# Altium schematic symbol library SchLib_Main.SchLib: 425 symbols (part 2 of 11)
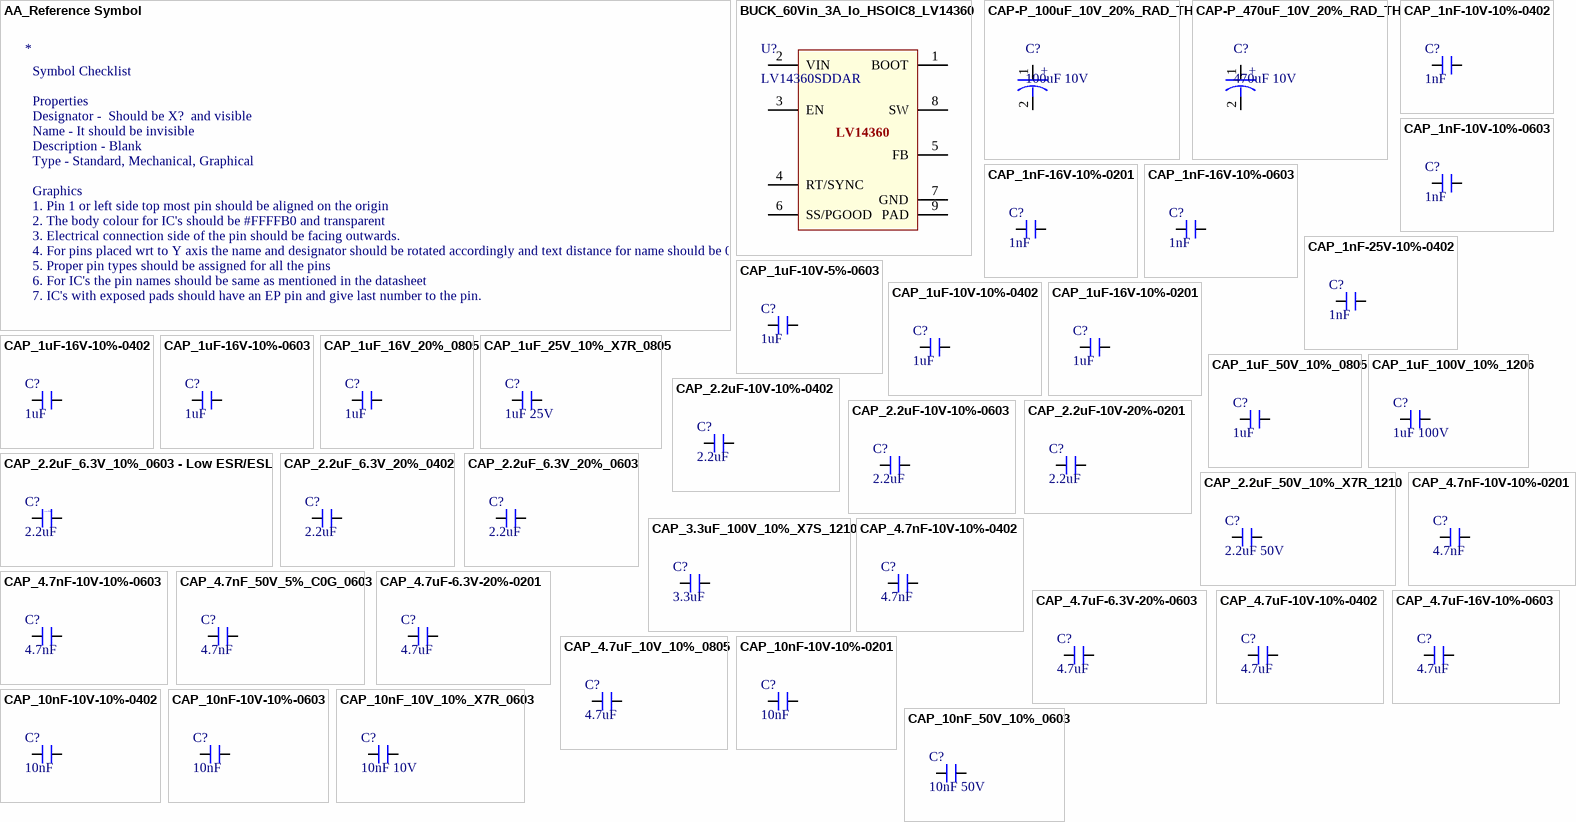
[diagram p17: symbols AA_Reference Symbol to CAP_10nF_50V_10%_0603]

## CAP_2.2uF_50V_10%_X7R_1210
designator C?, comment 2.2uF 50V
Ceramic Capacitor, Multilayer, Ceramic, 50V, 10% +Tol, 10% -Tol, X7R, 15% TC, 2.2uF, Surface Mount, 1210; Manufacturer: KEMET; Manufacturer Part Number: C1210C225K5RACTU; Multilayer: Yes; Supplier: Digi-Key; Supplier Part Number: 399-C1210C225K5RAC7800CT-ND; RoHS: Yes; Category: Ceramic Capacitors; Stock: 58852; Pricing: 1=0.56, 10=0.373, 50=0.2972, 100=0.2454, 500=0.1917, 1000=0.16294 (USD); Mounting Technology: Surface Mount; Pins: 2; Terminal Finish: Nickel; Dielectric Material: Ceramic; Package Shape: Rectangular; Case/Package: 1210; Min Operating Temperature: -55°C; Max Operating Temperature: 125°C; JESD-609 Code: e3; Value: 2.2uF; Capacitor Type: Ceramic; Tolerance  (fill in as +-): 10%; Package Style: SMTMeter; Packaging: Tape and Reel; Tolerance (fill in as +-): 10%; Rated DC Voltage (URdc): 50V; Temperature Characteristics Code: X7R; Termination: Wraparound; Length: 3.2mm; Width: 2.5mm; Height: 1.25mm; Reach SVHC Compliant: Yes; RoHS Compliant: Yes; ComponentLink1URL: https://datasheet.ciiva.com:443/pdfs/VipMasterIC/IC/KEME/KEME-S-A0008991654/KEME-S-A0008991654-1.pdf?src-supplier=IHS+Markit; ComponentLink1Description: https://datasheet.ciiva.com:443/pdfs/VipMasterIC/IC/KEME/KEME-S-A0008991654/KEME-S-A0008991654-1.pdf?src-supplier=IHS+Markit; ComponentLink2URL: https://datasheet.ciiva.com/7807/1693454-7807221.pdf?src-supplier=Element14; ComponentLink2Description: https://datasheet.ciiva.com/7807/1693454-7807221.pdf?src-supplier=Element14; ComponentLink3URL: https://datasheet.ciiva.com/7807/1693454-7807222.pdf?src-supplier=Element14; ComponentLink3Description: https://datasheet.ciiva.com/7807/1693454-7807222.pdf?src-supplier=Element14
footprint CAP_1210
pins: 1, 2

## CAP_3.3uF_100V_10%_X7S_1210
designator C?, comment 3.3uF
Ceramic Capacitor, Multilayer, Ceramic, 100V, 10% +Tol, 10% -Tol, X7S, 22% TC, 3.3uF, Surface Mount, 1210; Manufacturer: TDK; Manufacturer Part Number: C3225X7S2A335K200AB; Multilayer: Yes; Supplier: Mouser; Supplier Part Number: 810-C3225X7S2A335K; RoHS: Yes; Category: Ceramic Capacitors; Stock: 85774; Pricing: 1=0.61, 10=0.394, 50=0.394, 100=0.348, 1000=0.27, 10000=0.228 (USD); Mounting Technology: Surface Mount; Pins: 2; Dielectric Material: Ceramic; Package Shape: Rectangular; Case/Package: 1210; Terminal Finish: Nickel; Min Operating Temperature: -55°C; Max Operating Temperature: 125°C; JESD-609 Code: e3; Value: 3.3uF; Capacitor Type: Ceramic; Tolerance  (fill in as +-): 10%; Package Style: SMTMeter; Packaging: Tape and Reel; Tolerance (fill in as +-): 10%; Rated DC Voltage (URdc): 100V; Temperature Characteristics Code: X7S; Termination: Wraparound; Length: 3.2mm; Width: 2.5mm; Height: 2mm; Reach SVHC Compliant: Yes; RoHS Compliant: Yes; ComponentLink1URL: https://datasheet.ciiva.com:443/pdfs/VipMasterIC/IC/TDKC/TDKC-S-A0008591847/TDKC-S-A0008591847-1.pdf?src-supplier=IHS+Markit; ComponentLink1Description: https://datasheet.ciiva.com:443/pdfs/VipMasterIC/IC/TDKC/TDKC-S-A0008591847/TDKC-S-A0008591847-1.pdf?src-supplier=IHS+Markit; ComponentLink2URL: http://components.arrow.com/part/dataview/57434406S459360N1165?src-supplier=Arrow+Electronics; ComponentLink2Description: http://components.arrow.com/part/dataview/57434406S459360N1165?src-supplier=Arrow+Electronics; ComponentLink3URL: https://product.tdk.com/info/en/documents/chara_sheet/C3225X7S2A335K200AB.pdf?src-supplier=Digikey; ComponentLink3Description: https://product.tdk.com/info/en/documents/chara_sheet/C3225X7S2A335K200AB.pdf?src-supplier=Digikey; ComponentLink4URL: https://product.tdk.com/info/en/catalog/datasheets/mlcc_commercial_midvoltage_en.pdf?ref_disty=digikey&src-supplier=Digikey; ComponentLink4Description: https://product.tdk.com/info/en/catalog/datasheets/mlcc_commercial_midvoltage_en.pdf?ref_disty=digikey&src-supplier=Digikey; ComponentLink5URL: https://4donline.ihs.com/images/VipMasterIC/IC/TDKC/TDKC-S-A0000596732/TDKC-S-A0000596732-1.pdf?hkey=52A5661711E402568146F3353EA87419&src-supplier=Farnell; ComponentLink5Description: https://4donline.ihs.com/images/VipMasterIC/IC/TDKC/TDKC-S-A0000596732/TDKC-S-A0000596732-1.pdf?hkey=52A5661711E402568146F3353EA87419&src-supplier=Farnell; ComponentLink6URL: https://4donline.ihs.com/images/VipMasterIC/IC/TDKC/TDKC-S-A0000596732/TDKC-S-A0000596732-1.pdf?hkey=52A5661711E402568146F3353EA87419&src-supplier=Newark; ComponentLink6Description: https://4donline.ihs.com/images/VipMasterIC/IC/TDKC/TDKC-S-A0000596732/TDKC-S-A0000596732-1.pdf?hkey=52A5661711E402568146F3353EA87419&src-supplier=Newark; ComponentLink7URL: https://datasheet.octopart.com/C3225X7S2A335K200AB-TDK-datasheet-10497308.pdf?src-supplier=Future+Electronics; ComponentLink7Description: https://datasheet.octopart.com/C3225X7S2A335K200AB-TDK-datasheet-10497308.pdf?src-supplier=Future+Electronics; ComponentLink8URL: https://datasheet.octopart.com/C3225X7S2A335K200AB-TDK-datasheet-43914167.pdf?src-supplier=Newark; ComponentLink8Description: https://datasheet.octopart.com/C3225X7S2A335K200AB-TDK-datasheet-43914167.pdf?src-supplier=Newark; ComponentLink9URL: http://www.farnell.com/datasheets/2860696.pdf?src-supplier=Newark; ComponentLink9Description: http://www.farnell.com/datasheets/2860696.pdf?src-supplier=Newark; ComponentLink10URL: http://www.farnell.com/datasheets/1936671.pdf?src-supplier=Element14; ComponentLink10Description: http://www.farnell.com/datasheets/1936671.pdf?src-supplier=Element14; ComponentLink11URL: http://www.farnell.com/datasheets/1913358.pdf?src-supplier=Element14; ComponentLink11Description: http://www.farnell.com/datasheets/1913358.pdf?src-supplier=Element14
footprint CAP_1210
pins: 1, 2

## CAP_4.7nF-10V-10%-0201
designator C?, comment 4.7nF
Capacitor SMD Ceramic 0201 Case 10Vdc X7R Dielectric 4700pF ±10% ø7T/R"; Manufacturer: AVX Corporation; Manufacturer Part Number: 0201ZC472KAT2A; Manufacturer 1: Kyocera AVX; Case/Package: 0201; Supplier-1: Digikey; Supplier 1: Mouser; Manufacturer Part Number 1: 0201ZC472KAT2A; RoHS: Yes; Category: Ceramic Capacitors; Stock 1: 68403; Pricing 1: 1=0.1, 10=0.032, 50=0.032, 100=0.015, 1000=0.01, 10000=0.01 (USD); ComponentLink1URL: https://datasheet.ciiva.com/11788/0900766b80dc2409-11788513.pdf?src-supplier=Rs; ComponentLink1Description: https://datasheet.ciiva.com/11788/0900766b80dc2409-11788513.pdf?src-supplier=Rs; ComponentLink2URL: https://datasheet.ciiva.com/5433/cx7r-218113-5433338.pdf?src-supplier=Mouser; ComponentLink2Description: https://datasheet.ciiva.com/5433/cx7r-218113-5433338.pdf?src-supplier=Mouser; ComponentLink3URL: https://datasheet.ciiva.com/7693/1679506-7693437.pdf?src-supplier=Element14; ComponentLink3Description: https://datasheet.ciiva.com/7693/1679506-7693437.pdf?src-supplier=Element14; ComponentLink4URL: https://datasheet.ciiva.com/1123/84526-1123251.pdf?src-supplier=Element14; ComponentLink4Description: https://datasheet.ciiva.com/1123/84526-1123251.pdf?src-supplier=Element14; ComponentLink5URL: https://datasheet.ciiva.com/1123/84526-1123252.pdf?src-supplier=Element14; ComponentLink5Description: https://datasheet.ciiva.com/1123/84526-1123252.pdf?src-supplier=Element14; Supplier Part Number 1: 581-0201ZC472KAT2A
footprint CAP_0201
pins: 1, 2

## CAP_4.7nF-10V-10%-0402
designator C?, comment 4.7nF
Super Low Distortion Multilayer Ceramic Capacitors, 10V, 4700 pF, ± 10 %, 0402, RoHS; Manufacturer: Taiyo Yuden; Manufacturer Part Number: LMK105SD472KV-F; Case/Package: 0402; Supplier-1: Digikey; Supplier 1: Digi-Key; Manufacturer 1: Taiyo Yuden; Manufacturer Part Number 1: LMK105SD472KV-F; RoHS: Yes; Category: Ceramic Capacitors; Stock 1: 18613; Pricing 1: 1=0.3, 10=0.207, 50=0.145, 100=0.1242, 500=0.09318, 1000=0.07868, 2500=0.07454, 5000=0.0704 (USD); ComponentLink1URL: https://datasheet.ciiva.com/25612/0900766b8109988b-25612786.pdf?src-supplier=Rs; ComponentLink1Description: https://datasheet.ciiva.com/25612/0900766b8109988b-25612786.pdf?src-supplier=Rs; ComponentLink2URL: https://datasheet.ciiva.com/31394/1760254-31394326.pdf?src-supplier=Farnell; ComponentLink2Description: https://datasheet.ciiva.com/31394/1760254-31394326.pdf?src-supplier=Farnell; ComponentLink3URL: https://datasheet.ciiva.com/138/lmk105sd472kv-f-ss-138081.pdf?src-supplier=Digi-Key; ComponentLink3Description: https://datasheet.ciiva.com/138/lmk105sd472kv-f-ss-138081.pdf?src-supplier=Digi-Key; ComponentLink4URL: https://datasheet.ciiva.com/138/mlcc07-e-138082.pdf?src-supplier=Digi-Key; ComponentLink4Description: https://datasheet.ciiva.com/138/mlcc07-e-138082.pdf?src-supplier=Digi-Key; ComponentLink5URL: https://datasheet.ciiva.com/138/mlcc07-e-138083.pdf?src-supplier=Digi-Key; ComponentLink5Description: https://datasheet.ciiva.com/138/mlcc07-e-138083.pdf?src-supplier=Digi-Key; Supplier Part Number 1: 587-1068-1-ND
footprint CAP_0402 (Capacitor)
pins: 1, 2

## CAP_4.7nF-10V-10%-0603
designator C?, comment 4.7nF
Multilayer Ceramic Capacitor, 4700 pF, 10 V, ± 10%, X7R, 0603 [1608 Metric]; Manufacturer: KEMET; Manufacturer Part Number: C0603C472K8RACTU; Voltage Rating: 10V; Case/Package: 0603; Supplier-1: Digikey; Supplier 1: Digi-Key; Manufacturer 1: KEMET; Manufacturer Part Number 1: C0603C472K8RACTU; RoHS: Yes; Category: Ceramic Capacitors; Stock 1: 19320; Pricing 1: 1=0.1, 10=0.051, 50=0.0276, 100=0.0226, 500=0.01612, 1000=0.01267 (USD); Mount: Surface Mount; Case Code (Metric): 1608; Case Code (Imperial): 0603; Contact Plating: Tin,Matte; Dielectric Material: Ceramic; Min Operating Temperature: -55°C; Max Operating Temperature: 125°C; Capacitance: 4.7nF; Tolerance: 10%; Packaging: Tape and Reel; Package Quantity: 1; Voltage Rating (DC): 10V; Dielectric: X7R; Termination: SMD/SMT; Series: C; Construction: Flat; Length: 1.6mm; Width: 0.031inch; Thickness: 0.034inch; Depth: 0.8mm; Radiation Hardening: No; Reach SVHC Compliant: No; RoHS Compliant: Yes; ComponentLink1URL: http://components.arrow.com/part/dataview/3445604S8609586N7429?src-supplier=Arrow+Electronics; ComponentLink1Description: http://components.arrow.com/part/dataview/3445604S8609586N7429?src-supplier=Arrow+Electronics; ComponentLink2URL: http://www.farnell.com/datasheets/2746290.pdf?src-supplier=Farnell; ComponentLink2Description: http://www.farnell.com/datasheets/2746290.pdf?src-supplier=Farnell; ComponentLink3URL: https://api.kemet.com/component-edge/download/datasheet/C0603C472K8RACTU.pdf?src-supplier=Digi-Key; ComponentLink3Description: https://api.kemet.com/component-edge/download/datasheet/C0603C472K8RACTU.pdf?src-supplier=Digi-Key; ComponentLink4URL: http://datasheet.octopart.com/C0603C472K8RACTU-KEMET-datasheet-157246124.pdf?src-supplier=Mouser; ComponentLink4Description: http://datasheet.octopart.com/C0603C472K8RACTU-KEMET-datasheet-157246124.pdf?src-supplier=Mouser; ComponentLink5URL: http://datasheet.octopart.com/C0603C472K8RACTU-KEMET-datasheet-157246124.pdf?src-supplier=Digi-Key; ComponentLink5Description: http://datasheet.octopart.com/C0603C472K8RACTU-KEMET-datasheet-157246124.pdf?src-supplier=Digi-Key; ComponentLink6URL: http://www.farnell.com/datasheets/2746290.pdf?src-supplier=Newark; ComponentLink6Description: http://www.farnell.com/datasheets/2746290.pdf?src-supplier=Newark; ComponentLink7URL: https://datasheet.octopart.com/C0603C472K8RACTU-Kemet-datasheet-62307647.pdf?src-supplier=Element14; ComponentLink7Description: https://datasheet.octopart.com/C0603C472K8RACTU-Kemet-datasheet-62307647.pdf?src-supplier=Element14; ComponentLink8URL: http://capacitoredge.kemet.com/capedge2/DataSheet?pn=C0603C472K8RAC7867&src-supplier=Avnet; ComponentLink8Description: http://capacitoredge.kemet.com/capedge2/DataSheet?pn=C0603C472K8RAC7867&src-supplier=Avnet; ComponentLink9URL: http://datasheet.octopart.com/C0603C472K8RACTU-KEMET-datasheet-157246124.pdf?src-supplier=Verical; ComponentLink9Description: http://datasheet.octopart.com/C0603C472K8RACTU-KEMET-datasheet-157246124.pdf?src-supplier=Verical; ComponentLink10URL: http://datasheet.octopart.com/C0603C472K8RACTU-KEMET-datasheet-157246124.pdf?src-supplier=Onlinecomponents.com; ComponentLink10Description: http://datasheet.octopart.com/C0603C472K8RACTU-KEMET-datasheet-157246124.pdf?src-supplier=Onlinecomponents.com; ComponentLink11URL: http://datasheet.octopart.com/C0603C472K8RACTU-KEMET-datasheet-157246124.pdf?src-supplier=Avnet; ComponentLink11Description: http://datasheet.octopart.com/C0603C472K8RACTU-KEMET-datasheet-157246124.pdf?src-supplier=Avnet; ComponentLink12URL: https://datasheet.octopart.com/C0603C472K8RACTU-KEMET-datasheet-86780211.pdf?src-supplier=Newark; ComponentLink12Description: https://datasheet.octopart.com/C0603C472K8RACTU-KEMET-datasheet-86780211.pdf?src-supplier=Newark; ComponentLink13URL: http://datasheet.octopart.com/C0603C472K8RACTU-KEMET-datasheet-157246124.pdf?src-supplier=TTI; ComponentLink13Description: http://datasheet.octopart.com/C0603C472K8RACTU-KEMET-datasheet-157246124.pdf?src-supplier=TTI; ComponentLink14URL: https://datasheet.octopart.com/C0603C472K8RACTU-KEMET-datasheet-136484000.pdf?src-supplier=TME; ComponentLink14Description: https://datasheet.octopart.com/C0603C472K8RACTU-KEMET-datasheet-136484000.pdf?src-supplier=TME; ComponentLink15URL: https://datasheet.octopart.com/C0603C472K8RACTU-KEMET-datasheet-157246124.pdf?src-supplier=Electro+Sonic; ComponentLink15Description: https://datasheet.octopart.com/C0603C472K8RACTU-KEMET-datasheet-157246124.pdf?src-supplier=Electro+Sonic; Supplier Part Number 1: 399-C0603C472K8RAC7867CT-ND
footprint CAP_0603 (Capacitor)
pins: 1, 2

## CAP_4.7nF_50V_5%_C0G_0603
designator C?, comment 4.7nF
Multilayer Ceramic Capacitor, 4700 pF, 50 V, ± 5%, C0G (NP0), 0603 [1608 Metric]; Manufacturer: KEMET; Manufacturer Part Number: C0603C472J5GACTU; Material: 4241ConductorMaterial; Voltage: 50V; Temperature Coefficient: 30ppm/°C; Supplier: Digikey; Supplier Part Number: 399-C0603C472J5GAC7867CT-ND; RoHS: Yes; Category: Ceramic Capacitors; Stock: 52218; Pricing: 1=0.3, 10=0.195, 50=0.1436, 100=0.1169, 500=0.09226, 1000=0.07791 (USD); Mounting Technology: Surface Mount; Case/Package: 0603; Pins: 2NUMBER; Case Code (Imperial): 0603; Case Code (Metric): 1608; Dielectric Material: 4241ConductorMaterial; Min Operating Temperature: -55°C; Max Operating Temperature: 125°C; Tolerance: 5%; Value: 4.7nF; Dielectric: C0G; Packaging: Tape and Reel; Package Quantity: 1; Series: C; Termination: SMD/SMT; Construction: Flat; Voltage Rating (DC): 50V; Length: 1.6mm; Width: 0.031inch; Height: 0.8mm; Depth: 0.8mm; Thickness: 0.034inch; Radiation Hardening: No; Reach SVHC Compliant: No; RoHS Compliant: Yes; Lead Free: 5697LeadFree; ComponentLink1URL: https://datasheet.ciiva.com/6074/f9080b-0402-series-c0g-6074652.pdf?src-supplier=Farnell; ComponentLink1Description: https://datasheet.ciiva.com/6074/f9080b-0402-series-c0g-6074652.pdf?src-supplier=Farnell; ComponentLink2URL: https://datasheet.ciiva.com/7824/1372242-7824041.pdf?src-supplier=Element14; ComponentLink2Description: https://datasheet.ciiva.com/7824/1372242-7824041.pdf?src-supplier=Element14; ComponentLink3URL: https://datasheet.ciiva.com/28584/1372242-28584136.pdf?src-supplier=Element14; ComponentLink3Description: https://datasheet.ciiva.com/28584/1372242-28584136.pdf?src-supplier=Element14; ComponentLink4URL: https://datasheet.ciiva.com/5424/kem-c1003-c0g-smd-5424557.pdf?src-supplier=Mouser; ComponentLink4Description: https://datasheet.ciiva.com/5424/kem-c1003-c0g-smd-5424557.pdf?src-supplier=Mouser; ComponentLink5URL: https://datasheet.ciiva.com/18193/getdatasheetpartid-560209-18193082.pdf?src-supplier=Verical; ComponentLink5Description: https://datasheet.ciiva.com/18193/getdatasheetpartid-560209-18193082.pdf?src-supplier=Verical
footprint CAP_0603
pins: 1, 2

## CAP_4.7uF-6.3V-20%-0201
designator C?, comment 4.7uF
Multilayer Ceramic Capacitor, 4.7 uF, 6.3 V, ± 20%, X5R, 0201 [0603 Metric]; Manufacturer: Murata Electronics; Manufacturer Part Number: GRM035R60J475ME15D; Manufacturer 1: Murata; Voltage Rating: 6.3V; Case/Package: 0201; Supplier-1: Digikey; Supplier 1: Digi-Key; Manufacturer Part Number 1: GRM035R60J475ME15D; RoHS: Yes; Category: Ceramic Capacitors; Stock 1: 408; Pricing 1: 1=0.22, 10=0.151, 50=0.1004, 100=0.0854, 500=0.06028, 1000=0.05274, 2500=0.05023, 5000=0.04646 (USD); Mount: Surface Mount; Case Code (Metric): 0603; Case Code (Imperial): 0201; Min Operating Temperature: -55°C; Max Operating Temperature: 85°C; Packaging: Cut Tape; Series: GRM; Capacitance: 4.7uF; Tolerance: 20%; Voltage Rating (DC): 6.3V; Dielectric: X5R; Length: 0.024inch; Width: 0.012inch; Thickness: 0.022inch; RoHS Compliant: Yes; ComponentLink1URL: http://www.farnell.com/datasheets/2853106.pdf?src-supplier=Farnell; ComponentLink1Description: http://www.farnell.com/datasheets/2853106.pdf?src-supplier=Farnell; ComponentLink2URL: https://datasheet.octopart.com/GRM035R60J475ME15D-Murata-datasheet-140089765.pdf?src-supplier=Future+Electronics; ComponentLink2Description: https://datasheet.octopart.com/GRM035R60J475ME15D-Murata-datasheet-140089765.pdf?src-supplier=Future+Electronics; ComponentLink3URL: http://www.farnell.com/datasheets/2853106.pdf?src-supplier=Newark; ComponentLink3Description: http://www.farnell.com/datasheets/2853106.pdf?src-supplier=Newark; ComponentLink4URL: https://datasheet.octopart.com/GRM035R60J475ME15D-Murata-datasheet-149522819.pdf?src-supplier=Farnell; ComponentLink4Description: https://datasheet.octopart.com/GRM035R60J475ME15D-Murata-datasheet-149522819.pdf?src-supplier=Farnell; ComponentLink5URL: http://search.murata.co.jp/Ceramy/image/img/A01X/G101/ENG/GRM035R60J475ME15-01.pdf?src-supplier=Digi-Key; ComponentLink5Description: http://search.murata.co.jp/Ceramy/image/img/A01X/G101/ENG/GRM035R60J475ME15-01.pdf?src-supplier=Digi-Key; ComponentLink6URL: https://datasheet.octopart.com/GRM035R60J475ME15D-Murata-datasheet-165579666.pdf?src-supplier=TME; ComponentLink6Description: https://datasheet.octopart.com/GRM035R60J475ME15D-Murata-datasheet-165579666.pdf?src-supplier=TME; Supplier Part Number 1: 490-13230-1-ND
footprint CAP_0201
pins: 1, 2

## CAP_4.7uF-6.3V-20%-0603
designator C?, comment 4.7uF
Ceramic Capacitor, Multilayer, Ceramic, 6.3V, 20% +Tol, 20% -Tol, X5R, 15% TC, 4.7uF, Surface Mount, 0603; Manufacturer: KEMET; Manufacturer Part Number: C0603C475M9PACTU; Dissipation Factor: 5%; Supplier 1: Mouser; RoHS: Yes; Category: Ceramic Capacitors; Stock 1: 43893; Pricing 1: 1=0.15, 10=0.088, 50=0.088, 100=0.057, 1000=0.057, 10000=0.046 (USD); Mount: Surface Mount; Case/Package: 0603; Case Code (Imperial): 0603; Case Code (Metric): 1608; Dielectric Material: Ceramic; Min Operating Temperature: -55°C; Max Operating Temperature: 85°C; Tolerance: 20%; Capacitance: 4.7uF; Voltage Rating: 6.3V; Packaging: Tape and Reel; Dielectric: X5R; Termination: SMD/SMT; Series: SMD Comm X5R; Package Quantity: 4000; Voltage Rating (DC): 6.3V; Construction: Flat; Length: 1.6mm; Width: 0.8mm; Height: 0.8mm; Depth: 0.8mm; Lead Pitch: 0.7mm; Thickness: 0.034inch; Radiation Hardening: No; Reach SVHC Compliant: No; Lead Free: Lead Free; RoHS Compliant: Yes; ComponentLink1URL: http://components.arrow.com/part/dataview/42933002S8993962N7429?src-supplier=Arrow+Electronics; ComponentLink1Description: http://components.arrow.com/part/dataview/42933002S8993962N7429?src-supplier=Arrow+Electronics; ComponentLink2URL: http://www.farnell.com/datasheets/2746647.pdf?src-supplier=Farnell; ComponentLink2Description: http://www.farnell.com/datasheets/2746647.pdf?src-supplier=Farnell; ComponentLink3URL: http://www.mouser.com/ds/2/212/KEM_C1006_X5R_SMD-1103249.pdf?src-supplier=Mouser; ComponentLink3Description: http://www.mouser.com/ds/2/212/KEM_C1006_X5R_SMD-1103249.pdf?src-supplier=Mouser; ComponentLink4URL: http://datasheet.octopart.com/C0603C475M9PACTU-KEMET-datasheet-153476653.pdf?src-supplier=Avnet; ComponentLink4Description: http://datasheet.octopart.com/C0603C475M9PACTU-KEMET-datasheet-153476653.pdf?src-supplier=Avnet; ComponentLink5URL: http://datasheet.octopart.com/C0603C475M9PACTU-KEMET-datasheet-153476653.pdf?src-supplier=Onlinecomponents.com; ComponentLink5Description: http://datasheet.octopart.com/C0603C475M9PACTU-KEMET-datasheet-153476653.pdf?src-supplier=Onlinecomponents.com; ComponentLink6URL: https://datasheet.octopart.com/C0603C475M9PACTU-Kemet-datasheet-17019119.pdf?src-supplier=Newark; ComponentLink6Description: https://datasheet.octopart.com/C0603C475M9PACTU-Kemet-datasheet-17019119.pdf?src-supplier=Newark; ComponentLink7URL: http://datasheet.octopart.com/C0603C475M9PACTU-KEMET-datasheet-153476653.pdf?src-supplier=Digi-Key; ComponentLink7Description: http://datasheet.octopart.com/C0603C475M9PACTU-KEMET-datasheet-153476653.pdf?src-supplier=Digi-Key; ComponentLink8URL: https://api.kemet.com/component-edge/download/datasheet/C0603C475M9PACTU.pdf?src-supplier=Digi-Key; ComponentLink8Description: https://api.kemet.com/component-edge/download/datasheet/C0603C475M9PACTU.pdf?src-supplier=Digi-Key; ComponentLink9URL: http://www.farnell.com/datasheets/2746647.pdf?src-supplier=Newark; ComponentLink9Description: http://www.farnell.com/datasheets/2746647.pdf?src-supplier=Newark; ComponentLink10URL: https://datasheet.octopart.com/C0603C475M9PACTU-Kemet-datasheet-62307650.pdf?src-supplier=Element14; ComponentLink10Description: https://datasheet.octopart.com/C0603C475M9PACTU-Kemet-datasheet-62307650.pdf?src-supplier=Element14; ComponentLink11URL: https://datasheet.octopart.com/C0603C475M9PACTU-KEMET-datasheet-149522171.pdf?src-supplier=Farnell; ComponentLink11Description: https://datasheet.octopart.com/C0603C475M9PACTU-KEMET-datasheet-149522171.pdf?src-supplier=Farnell; ComponentLink12URL: http://www.farnell.com/datasheets/1791935.pdf?src-supplier=Newark; ComponentLink12Description: http://www.farnell.com/datasheets/1791935.pdf?src-supplier=Newark; ComponentLink13URL: http://datasheet.octopart.com/C0603C475M9PACTU-KEMET-datasheet-153476653.pdf?src-supplier=Quest; ComponentLink13Description: http://datasheet.octopart.com/C0603C475M9PACTU-KEMET-datasheet-153476653.pdf?src-supplier=Quest; ComponentLink14URL: https://datasheet.octopart.com/C0603C475M9PACTU-KEMET-datasheet-153476653.pdf?src-supplier=Electro+Sonic; ComponentLink14Description: https://datasheet.octopart.com/C0603C475M9PACTU-KEMET-datasheet-153476653.pdf?src-supplier=Electro+Sonic; Supplier 2: Digi-Key; Manufacturer 2: KEMET; Manufacturer Part Number 2: C0603C475M9PACTU; Stock 2: 122167; Pricing 2: 1=0.63, 10=0.462, 50=0.3696, 100=0.3168, 500=0.2508, 1000=0.2112 (USD); Supplier Part Number 2: 399-C0603C475M9PAC7867CT-ND
footprint CAP_0603 (Chip Capacitor 0603, 2-Leads, Body 1.68x0.88mm, IPC Medium Density)
pins: 1, 2

## CAP_4.7uF-10V-10%-0402
designator C?, comment 4.7uF
Cap Ceramic 4.7uF 10V X5R 10% SMD 0402 85°C Cardboard T/R; Manufacturer: Samsung Electro-Mechanics; Manufacturer Part Number: CL05A475KP5NRNC; Manufacturer 1: Samsung; Case/Package: 0402; Supplier-1: Digikey; Supplier 1: Digi-Key; Manufacturer Part Number 1: CL05A475KP5NRNC; RoHS: Yes; Category: Ceramic Capacitors; Stock 1: 1306599; Pricing 1: 1=0.28, 10=0.193, 50=0.129, 100=0.1096, 500=0.0774, 1000=0.06772, 2500=0.0645, 5000=0.05966 (USD); Mount: Surface Mount; Case Code (Metric): 1005; Case Code (Imperial): 0402; Material: Ceramic; Min Operating Temperature: -55°C; Max Operating Temperature: 85°C; Tolerance: 10%; Packaging: Tape and Reel; Capacitance: 4.7uF; Package Quantity: 1; Voltage Rating: 10V; Dielectric: X5R; Series: CL; Construction: Flat; Length: 1mm; Width: 0.02inch; Height: 0.5mm; Thickness: 0.022inch; Depth: 0.5mm; Radiation Hardening: No; Lead Free: Lead Free; RoHS Compliant: Yes; ComponentLink1URL: https://datasheet.ciiva.com/25724/cl05a475kp5nrnc-25724404.pdf?src-supplier=Digi-Key; ComponentLink1Description: https://datasheet.ciiva.com/25724/cl05a475kp5nrnc-25724404.pdf?src-supplier=Digi-Key; ComponentLink2URL: https://datasheet.ciiva.com/29198/458873-da-01-en-vs-kondensator-0402-29198304.pdf?src-supplier=Conrad; ComponentLink2Description: https://datasheet.ciiva.com/29198/458873-da-01-en-vs-kondensator-0402-29198304.pdf?src-supplier=Conrad; Supplier Part Number 1: 1276-1480-1-ND
footprint CAP_0402 (Capacitor)
pins: 1, 2

## CAP_4.7uF-16V-10%-0603
designator C?, comment 4.7uF
GRM Series 16 V 4.7 µF 0603 Surface Mount Multilayer Ceramic Chip Capacitor; Manufacturer: Murata Electronics; Manufacturer Part Number: GRM188R61C475KAAJD; Manufacturer 1: Murata; Case/Package: 0603; Supplier-1: Digikey; Supplier 1: Mouser; Manufacturer Part Number 1: GRM188R61C475KAAJD; RoHS: Yes; Category: Ceramic Capacitors; Stock 1: 707885; Pricing 1: 1=0.28, 10=0.194, 50=0.194, 100=0.117, 1000=0.074, 10000=0.06 (USD); ComponentLink1URL: https://datasheet.ciiva.com/14813/595grm188r61c475kaaj23-14813668.pdf?src-supplier=Arrow+Electronics; ComponentLink1Description: https://datasheet.ciiva.com/14813/595grm188r61c475kaaj23-14813668.pdf?src-supplier=Arrow+Electronics; Supplier Part Number 1: 81-GRM188R61C475KAJD
footprint CAP_0603 (Capacitor)
pins: 1, 2

## CAP_4.7uF_10V_10%_0805
designator C?, comment 4.7uF
Multilayer Ceramic Capacitor, 4.7 uF, 10 V, ± 10%, X5R, 0805 [2012 Metric]; Manufacturer: KEMET; Manufacturer Part Number: C0805C475K8PACTU; Voltage Rating (DC): 10V; Dissipation Factor: 5%; Supplier 1: Mouser; RoHS: Yes; Category: Ceramic Capacitors; Stock 1: 447144; Pricing 1: 1=0.19, 10=0.094, 50=0.094, 100=0.055, 1000=0.04, 10000=0.031 (USD); ComponentLink1URL: https://datasheet.ciiva.com/6126/40889-6126699.pdf?src-supplier=Farnell; ComponentLink1Description: https://datasheet.ciiva.com/6126/40889-6126699.pdf?src-supplier=Farnell; ComponentLink2URL: https://datasheet.ciiva.com/28614/1918694-28614763.pdf?src-supplier=Element14; ComponentLink2Description: https://datasheet.ciiva.com/28614/1918694-28614763.pdf?src-supplier=Element14; ComponentLink3URL: https://datasheet.ciiva.com/46385/1791935-46385676.pdf?src-supplier=Element14; ComponentLink3Description: https://datasheet.ciiva.com/46385/1791935-46385676.pdf?src-supplier=Element14; ComponentLink4URL: https://datasheet.ciiva.com/7842/40889-7842616.pdf?src-supplier=Element14; ComponentLink4Description: https://datasheet.ciiva.com/7842/40889-7842616.pdf?src-supplier=Element14; ComponentLink5URL: https://datasheet.ciiva.com/18193/getdatasheetpartid-179373-18193909.pdf?src-supplier=Verical; ComponentLink5Description: https://datasheet.ciiva.com/18193/getdatasheetpartid-179373-18193909.pdf?src-supplier=Verical; Supplier 2: Digi-Key; Manufacturer 2: KEMET; Manufacturer Part Number 2: C0805C475K8PACTU; Stock 2: 460280; Pricing 2: 1=0.22, 10=0.149, 50=0.0894, 100=0.0755, 500=0.05166, 1000=0.04571 (USD); Mount: Surface Mount; Case/Package: 0805; Number of Pins: 2; Dielectric Material: Ceramic; Case Code (Imperial): 0805; Case Code (Metric): 2012; Min Operating Temperature: -55°C; Max Operating Temperature: 85°C; Tolerance: 10%; Packaging: Tape and Reel; Capacitance: 4.7uF; Dielectric: X5R; Package Quantity: 2500; Voltage Rating: 10V; Termination: SMD/SMT; Series: SMD Comm X5R; Construction: Flat; Length: 2mm; Width: 1.2mm; Height: 1.25mm; Depth: 1.25mm; Lead Pitch: 0.75mm; Radiation Hardening: No; Lead Free: Lead Free; Reach SVHC Compliant: No; RoHS Compliant: Yes; Supplier Part Number 2: 399-C0805C475K8PAC7800CT-ND
footprint CAP_0805 (Chip Capacitor, 2-Leads, Body 2.10x1.35mm, IPC Medium Density)
pins: 1, 2

## CAP_10nF-10V-10%-0201
designator C?, comment 10nF
Multilayer Ceramic Capacitor, 0.01 uF, 10 V, ± 10%, X7R, 0201 [0603 Metric]; Manufacturer: TDK Corporation; Manufacturer Part Number: CGA1A2X7R1A103K030BA; Manufacturer 1: TDK; Voltage Rating: 10V; Case/Package: 0201; Supplier-1: Digikey; Supplier 1: Digi-Key; Manufacturer Part Number 1: CGA1A2X7R1A103K030BA; RoHS: Yes; Category: Ceramic Capacitors; Stock 1: 562393; Pricing 1: 1=0.1, 10=0.072, 50=0.0394, 100=0.0322, 500=0.02298, 1000=0.01805, 2500=0.01641, 5000=0.0151 (USD); Mount: Surface Mount; Case Code (Metric): 0603; Case Code (Imperial): 0201; Weight: 6E-06oz; Min Operating Temperature: -55°C; Max Operating Temperature: 125°C; Package Quantity: 15000; Packaging: Tape and Reel; Capacitance: 10nF; Tolerance: 10%; Dielectric: X7R; Termination: SMD/SMT; Voltage Rating (DC): 10V; Series: CGA; Length: 0.6mm; Width: 0.3mm; Height: 0.3mm; Ratings: AEC-Q200; RoHS Compliant: Yes; ComponentLink1URL: http://www.mouser.com/ds/2/400/lcc_automotive_general_en-843974.pdf?src-supplier=Mouser; ComponentLink1Description: http://www.mouser.com/ds/2/400/lcc_automotive_general_en-843974.pdf?src-supplier=Mouser; ComponentLink2URL: https://4donline.ihs.com/images/VipMasterIC/IC/TDKC/TDKC-S-A0003616427/TDKC-S-A0003616427-1.pdf?hkey=52A5661711E402568146F3353EA87419&src-supplier=Farnell; ComponentLink2Description: https://4donline.ihs.com/images/VipMasterIC/IC/TDKC/TDKC-S-A0003616427/TDKC-S-A0003616427-1.pdf?hkey=52A5661711E402568146F3353EA87419&src-supplier=Farnell; ComponentLink3URL: https://product.tdk.com/info/en/documents/chara_sheet/CGA1A2X7R1A103K030BA.pdf?src-supplier=Digi-Key; ComponentLink3Description: https://product.tdk.com/info/en/documents/chara_sheet/CGA1A2X7R1A103K030BA.pdf?src-supplier=Digi-Key; ComponentLink4URL: https://datasheet.octopart.com/CGA1A2X7R1A103K030BA-TDK-datasheet-43366117.pdf?src-supplier=Future+Electronics; ComponentLink4Description: https://datasheet.octopart.com/CGA1A2X7R1A103K030BA-TDK-datasheet-43366117.pdf?src-supplier=Future+Electronics; ComponentLink5URL: http://product.tdk.com/capacitor/mlcc/en/documents/mlcc_automotive_general_en.pdf?src-supplier=Avnet; ComponentLink5Description: http://product.tdk.com/capacitor/mlcc/en/documents/mlcc_automotive_general_en.pdf?src-supplier=Avnet; ComponentLink6URL: https://datasheet.octopart.com/CGA1A2X7R1A103K030BA-TDK-datasheet-165583812.pdf?src-supplier=TME; ComponentLink6Description: https://datasheet.octopart.com/CGA1A2X7R1A103K030BA-TDK-datasheet-165583812.pdf?src-supplier=TME; Supplier Part Number 1: 445-12059-1-ND
footprint CAP_0201
pins: 1, 2

## CAP_10nF-10V-10%-0402
designator C?, comment 10nF
0402 10 nF 10 V ±10 % Tolerance X7R Surface Mount Multilayer Ceramic Capacitor; Manufacturer: AVX Corporation; Manufacturer Part Number: 0402ZC103KAT2A; Manufacturer 1: Kyocera AVX; Case/Package: 0402; Supplier-1: Digikey; Supplier 1: Mouser; Manufacturer Part Number 1: 0402ZC103KAT2A; RoHS: Yes; Category: Ceramic Capacitors; Stock 1: 46520; Pricing 1: 1=0.23, 10=0.14, 50=0.14, 100=0.078, 1000=0.056, 10000=0.043 (USD); ComponentLink1URL: https://datasheet.ciiva.com/206/cx7r-206671.pdf?src-supplier=Digi-Key; ComponentLink1Description: https://datasheet.ciiva.com/206/cx7r-206671.pdf?src-supplier=Digi-Key; ComponentLink2URL: https://datasheet.ciiva.com/7614/cx7r-7614631.pdf?src-supplier=Digi-Key; ComponentLink2Description: https://datasheet.ciiva.com/7614/cx7r-7614631.pdf?src-supplier=Digi-Key; ComponentLink3URL: https://datasheet.ciiva.com/28454/1679506-28454294.pdf?src-supplier=Element14; ComponentLink3Description: https://datasheet.ciiva.com/28454/1679506-28454294.pdf?src-supplier=Element14; ComponentLink4URL: https://datasheet.ciiva.com/22619/1679506-22619800.pdf?src-supplier=Element14; ComponentLink4Description: https://datasheet.ciiva.com/22619/1679506-22619800.pdf?src-supplier=Element14; ComponentLink5URL: https://datasheet.ciiva.com/28620/1679506-28620989.pdf?src-supplier=Element14; ComponentLink5Description: https://datasheet.ciiva.com/28620/1679506-28620989.pdf?src-supplier=Element14; Supplier Part Number 1: 581-0402ZC103KAT2A
footprint CAP_0402 (Capacitor)
pins: 1, 2

## CAP_10nF-10V-10%-0603
designator C?, comment 10nF
Multilayer Ceramic Capacitor, 0.01 uF, 10 V, ± 10%, X7R, 0603 [1608 Metric]; Manufacturer: KEMET; Manufacturer Part Number: C0603C103K8RACTU; Voltage Rating: 10V; Dissipation Factor: 5%; Case/Package: 0603; Supplier-1: Digikey; Supplier 1: Mouser; Manufacturer 1: KEMET; Manufacturer Part Number 1: C0603C103K8RACTU; RoHS: Yes; Category: Ceramic Capacitors; Stock 1: 6134; Pricing 1: 1=0.1, 10=0.034, 50=0.034, 100=0.02, 1000=0.016, 10000=0.011 (USD); Mount: Surface Mount; Case Code (Metric): 1608; Case Code (Imperial): 0603; Dielectric Material: Ceramic; Min Operating Temperature: -55°C; Max Operating Temperature: 125°C; Capacitance: 10nF; Tolerance: 10%; Package Quantity: 1; Packaging: Tape and Reel; Voltage Rating (DC): 10V; Dielectric: X7R; Termination: SMD/SMT; Series: -; Construction: Flat; Length: 1.6mm; Width: 0.031inch; Height: 0.8mm; Thickness: 0.034inch; Lead Pitch: 0.7mm; Depth: 0.8mm; Reach SVHC Compliant: No; ComponentLink1URL: https://datasheet.ciiva.com/49516/1564916-49516523.pdf?src-supplier=Jameco; ComponentLink1Description: https://datasheet.ciiva.com/49516/1564916-49516523.pdf?src-supplier=Jameco; Supplier Part Number 1: 80-C0603C103K8R
footprint CAP_0603 (Capacitor)
pins: 1, 2

## CAP_10nF_10V_10%_X7R_0603
designator C?, comment 10nF 10V
Multilayer Ceramic Capacitor, 0.01 uF, 10 V, ± 10%, X7R, 0603 [1608 Metric]; Manufacturer: KEMET; Manufacturer Part Number: C0603C103K8RACTU; Dissipation Factor: 5%; Case/Package: 0603; Supplier-1: Digikey; Supplier 1: Mouser; Manufacturer 1: KEMET; Manufacturer Part Number 1: C0603C103K8RACTU; RoHS: Yes; Category: Ceramic Capacitors; Stock 1: 6134; Pricing 1: 1=0.1, 10=0.034, 50=0.034, 100=0.02, 1000=0.016, 10000=0.011 (USD); Mount: Surface Mount; Case Code (Metric): 1608; Case Code (Imperial): 0603; Dielectric Material: Ceramic; Min Operating Temperature: -55°C; Max Operating Temperature: 125°C; Capacitance: 10nF; Tolerance: 10%; Package Quantity: 1; Packaging: Tape and Reel; Voltage Rating: 10V; Voltage Rating (DC): 10V; Dielectric: X7R; Termination: SMD/SMT; Series: -; Construction: Flat; Length: 1.6mm; Width: 0.031inch; Height: 0.8mm; Thickness: 0.034inch; Lead Pitch: 0.7mm; Depth: 0.8mm; Reach SVHC Compliant: No; ComponentLink1URL: https://datasheet.ciiva.com/49516/1564916-49516523.pdf?src-supplier=Jameco; ComponentLink1Description: https://datasheet.ciiva.com/49516/1564916-49516523.pdf?src-supplier=Jameco; Supplier Part Number 1: 80-C0603C103K8R
footprint CAP_0603
pins: 1, 2

## CAP_10nF_50V_10%_0603
designator C?, comment 10nF 50V
Ceramic Capacitor, Multilayer, Ceramic, 50V, 10% +Tol, 10% -Tol, X7R, 15% TC, 0.01uF, Surface Mount, 0603; Manufacturer: KEMET; Manufacturer Part Number: C0603C103K5RACTU; Multilayer: Yes; Supplier: Mouser; Supplier Part Number: 80-C0603C103K5R; RoHS: Yes; Category: Ceramic Capacitors; Stock: 699335; Pricing: 1=0.1, 10=0.042, 50=0.042, 100=0.022, 1000=0.015, 10000=0.013 (USD); Mounting Technology: Surface Mount; Pins: 2; Dielectric Material: Ceramic; Package Shape: Rectangular; Case/Package: 0603; Terminal Finish: Nickel; Min Operating Temperature: -55°C; Max Operating Temperature: 125°C; JESD-609 Code: e3; Value: 10nF; Capacitor Type: Ceramic; Tolerance  (fill in as +-): 10%; Package Style: SMTMeter; Packaging: Tape and Reel; Tolerance (fill in as +-): 10%; Rated DC Voltage (URdc): 50V; Temperature Characteristics Code: X7R; Termination: Wraparound; Length: 1.6mm; Width: 0.8mm; Height: 0.8mm; Reach SVHC Compliant: Yes; RoHS Compliant: Yes; ComponentLink1URL: https://datasheet.ciiva.com:443/pdfs/VipMasterIC/IC/KEME/KEME-S-A0008991654/KEME-S-A0008991654-1.pdf?src-supplier=IHS+Markit; ComponentLink1Description: https://datasheet.ciiva.com:443/pdfs/VipMasterIC/IC/KEME/KEME-S-A0008991654/KEME-S-A0008991654-1.pdf?src-supplier=IHS+Markit; ComponentLink2URL: https://datasheet.ciiva.com/7823/1732718-7823585.pdf?src-supplier=Element14; ComponentLink2Description: https://datasheet.ciiva.com/7823/1732718-7823585.pdf?src-supplier=Element14; ComponentLink3URL: https://datasheet.ciiva.com/5904/kem-c1002-x7r-smd-5904645.pdf?src-supplier=Farnell; ComponentLink3Description: https://datasheet.ciiva.com/5904/kem-c1002-x7r-smd-5904645.pdf?src-supplier=Farnell; ComponentLink4URL: https://datasheet.ciiva.com/7823/kem-c1002-x7r-smd-7823976.pdf?src-supplier=Element14; ComponentLink4Description: https://datasheet.ciiva.com/7823/kem-c1002-x7r-smd-7823976.pdf?src-supplier=Element14; ComponentLink5URL: https://datasheet.ciiva.com/14585/70095383-14585450.pdf?src-supplier=Allied+Electronics; ComponentLink5Description: https://datasheet.ciiva.com/14585/70095383-14585450.pdf?src-supplier=Allied+Electronics; ComponentLink6URL: https://datasheet.ciiva.com/5416/kem-c1002-x7r-smd-5416028.pdf?src-supplier=Mouser; ComponentLink6Description: https://datasheet.ciiva.com/5416/kem-c1002-x7r-smd-5416028.pdf?src-supplier=Mouser; ComponentLink7URL: https://datasheet.ciiva.com/18192/getdatasheetpartid-308803-18192662.pdf?src-supplier=Verical; ComponentLink7Description: https://datasheet.ciiva.com/18192/getdatasheetpartid-308803-18192662.pdf?src-supplier=Verical; ComponentLink8URL: https://datasheet.ciiva.com/7823/1918693-7823978.pdf?src-supplier=Element14; ComponentLink8Description: https://datasheet.ciiva.com/7823/1918693-7823978.pdf?src-supplier=Element14; ComponentLink9URL: https://datasheet.ciiva.com/28645/1851736-28645598.pdf?src-supplier=Element14; ComponentLink9Description: https://datasheet.ciiva.com/28645/1851736-28645598.pdf?src-supplier=Element14; ComponentLink10URL: https://datasheet.ciiva.com/7823/kem-c1002-x7r-smd-7823977.pdf?src-supplier=Element14; ComponentLink10Description: https://datasheet.ciiva.com/7823/kem-c1002-x7r-smd-7823977.pdf?src-supplier=Element14; ComponentLink11URL: https://datasheet.ciiva.com/39122/kem-c1002-x7r-smd-39122903.pdf?src-supplier=Onlinecomponents.com; ComponentLink11Description: https://datasheet.ciiva.com/39122/kem-c1002-x7r-smd-39122903.pdf?src-supplier=Onlinecomponents.com; ComponentLink12URL: https://datasheet.ciiva.com/18101/getdatasheetpartid-58468-18101898.pdf?src-supplier=Verical; ComponentLink12Description: https://datasheet.ciiva.com/18101/getdatasheetpartid-58468-18101898.pdf?src-supplier=Verical
footprint CAP_0603
pins: 1, 2

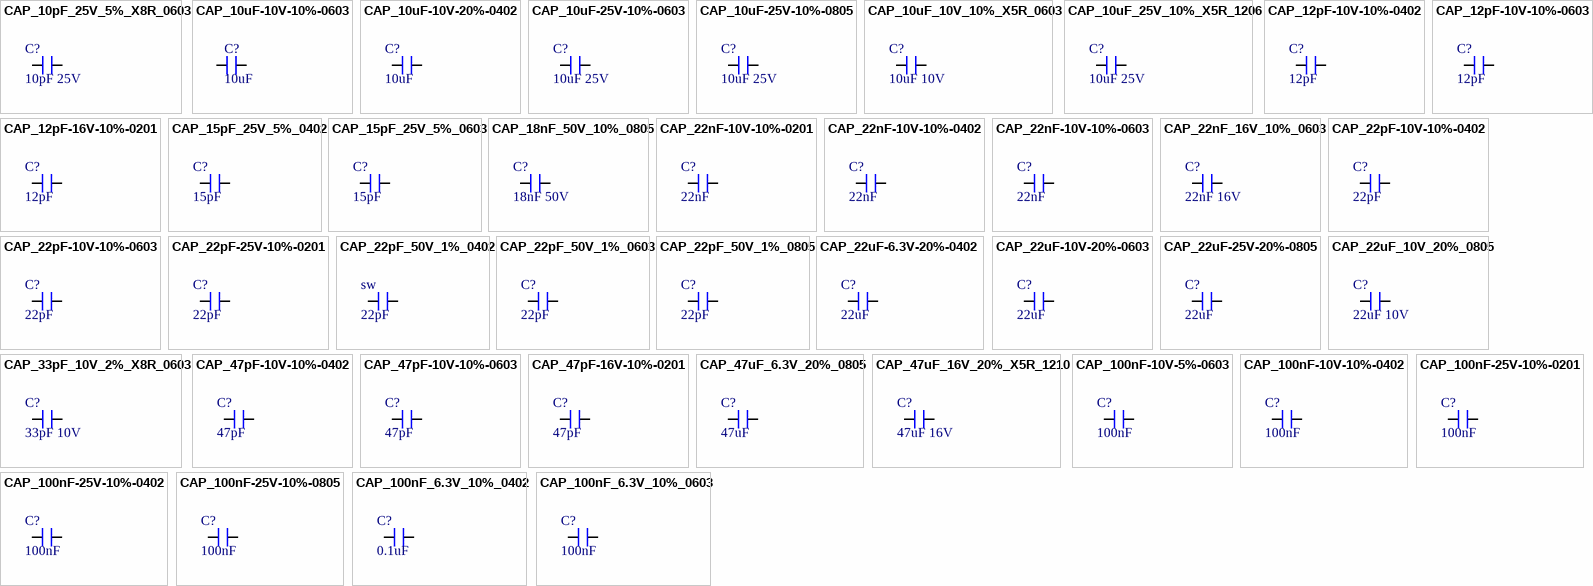
[diagram p1: symbols CAP_10pF_25V_5%_X8R_0603 to CAP_100nF_6.3V_10%_0603]

## CAP_10pF_25V_5%_X8R_0603
designator C?, comment 10pF 25V
10 pF ±5% 25V Ceramic Capacitor X8R 0603 (1608 Metric); Manufacturer: KEMET; Manufacturer Part Number: C0603C100J3HAC7867; Supplier: Digi-Key; Supplier Part Number: 399-C0603C100J3HAC7867CT-ND; RoHS: No; Category: Ceramic Capacitors; Stock: 47901; Pricing: 1=0.1, 10=0.037, 50=0.0212, 100=0.0164, 500=0.01238, 1000=0.00972 (USD); ComponentLink1URL: https://datasheet.octopart.com/C0603C100J3HAC7867-KEMET-datasheet-154276014.pdf?src-supplier=Newark; ComponentLink1Description: https://datasheet.octopart.com/C0603C100J3HAC7867-KEMET-datasheet-154276014.pdf?src-supplier=Newark
footprint CAP_0603
pins: 1, 2

## CAP_10uF-10V-10%-0603
designator C?, comment 10uF
Multilayer Ceramic Capacitor, 10 uF, 10 V, ± 10%, X5R, 0603 [1608 Metric]; Manufacturer 1: Samsung; Manufacturer Part Number 1: CL10A106KP8NNNC; Voltage Rating: 10V; ComponentLink1URL: https://datasheet.octopart.com/GRM188R61A106KE69J-Murata-datasheet-66152891.pdf?src-supplier=Future+Electronics; ComponentLink1Description: https://datasheet.octopart.com/GRM188R61A106KE69J-Murata-datasheet-66152891.pdf?src-supplier=Future+Electronics; ComponentLink2URL: http://search.murata.co.jp/Ceramy/image/img/A01X/G101/ENG/GRM188R61A106KE69-01.pdf?src-supplier=Digi-Key; ComponentLink2Description: http://search.murata.co.jp/Ceramy/image/img/A01X/G101/ENG/GRM188R61A106KE69-01.pdf?src-supplier=Digi-Key; Supplier 1: Digi-Key; RoHS: Yes; Category: Ceramic Capacitors; Stock 1: 1782428; Pricing 1: 1=0.19, 10=0.139, 50=0.0786, 100=0.0652, 500=0.04572, 1000=0.03785 (USD); Mount: Surface Mount; Case/Package: 0603; Case Code (Metric): 1608; Case Code (Imperial): 0603; Material: Ceramic; Min Operating Temperature: -55°C; Max Operating Temperature: 85°C; Capacitance: 10uF; Tolerance: 10%; Dielectric: X5R; Package Quantity: 1; Packaging: Tape and Reel; Voltage Rating (DC): 10V; Series: CL; Construction: Flat; Length: 1.6mm; Width: 0.031inch; Height: 0.8mm; Thickness: 0.035inch; Depth: 0.8mm; Radiation Hardening: No; Lead Free: Lead Free; RoHS Compliant: Yes; ComponentLink3URL: https://datasheet.ciiva.com/26877/getdatasheetpartid-359551-26877881.pdf?src-supplier=Verical; ComponentLink3Description: https://datasheet.ciiva.com/26877/getdatasheetpartid-359551-26877881.pdf?src-supplier=Verical; ComponentLink4URL: https://datasheet.ciiva.com/29198/457369-da-01-en-vs-kondensator-0603-29198790.pdf?src-supplier=Conrad; ComponentLink4Description: https://datasheet.ciiva.com/29198/457369-da-01-en-vs-kondensator-0603-29198790.pdf?src-supplier=Conrad; ComponentLink5URL: https://datasheet.ciiva.com/16200/cl05b104kq5nnnc-16200766.pdf?src-supplier=Future+Electronics; ComponentLink5Description: https://datasheet.ciiva.com/16200/cl05b104kq5nnnc-16200766.pdf?src-supplier=Future+Electronics; Supplier Part Number 1: 1276-1192-1-ND
footprint CAP_0603 (Capacitor)
pins: 1, 2

## CAP_10uF-10V-20%-0402
designator C?, comment 10uF
Multilayer Ceramic Capacitor, 10 uF, 10 V, ± 20%, X5R, 0402 [1005 Metric]; Manufacturer Part Number: CL05A106MP5NUNC; Manufacturer: Samsung Electro-Mechanics; Manufacturer 1: Samsung; Voltage Rating: 10V; Case/Package: 0402; Supplier-1: Digikey; Supplier 1: Digi-Key; Manufacturer Part Number 1: CL05A106MP5NUNC; RoHS: Yes; Category: Ceramic Capacitors; Stock 1: 2175928; Pricing 1: 1=0.18, 10=0.121, 50=0.0726, 100=0.0613, 500=0.04192, 1000=0.03708, 2500=0.03546, 5000=0.03224 (USD); Mount: Surface Mount; Case Code (Metric): 1005; Case Code (Imperial): 0402; Min Operating Temperature: -55°C; Max Operating Temperature: 85°C; Package Quantity: 1; Packaging: Tape and Reel; Capacitance: 10uF; Tolerance: 20%; Dielectric: X5R; Series: CL; Length: 1mm; Width: 0.02inch; Thickness: 0.028inch; Depth: 0.5mm; Radiation Hardening: No; Lead Free: Lead Free; RoHS Compliant: Yes; ComponentLink1URL: https://datasheet.ciiva.com/25721/cl05a106mp5nunc-25721584.pdf?src-supplier=Digi-Key; ComponentLink1Description: https://datasheet.ciiva.com/25721/cl05a106mp5nunc-25721584.pdf?src-supplier=Digi-Key; ComponentLink2URL: https://datasheet.ciiva.com/26838/getdatasheetpartid-745310-26838170.pdf?src-supplier=Verical; ComponentLink2Description: https://datasheet.ciiva.com/26838/getdatasheetpartid-745310-26838170.pdf?src-supplier=Verical; Supplier Part Number 1: 1276-1450-1-ND
footprint CAP_0402 (Capacitor)
pins: 1, 2

## CAP_10uF-25V-10%-0603
designator C?, comment 10uF 25V
Multilayer Ceramic Capacitor, 10 uF, 25 V, ± 10%, X5R, 0603 [1608 Metric]; Manufacturer: Murata Electronics; Manufacturer Part Number: GRM188R61E106KA73D; Manufacturer 1: Murata; Case/Package: 0603; Supplier-1: Digikey; Supplier 1: Mouser; Manufacturer Part Number 1: GRM188R61E106KA73D; RoHS: Yes; Category: Ceramic Capacitors; Stock 1: 394422; Pricing 1: 1=0.23, 10=0.105, 50=0.105, 100=0.063, 1000=0.056, 10000=0.043 (USD); ComponentLink1URL: https://datasheet.octopart.com/GRM188R61E106KA73D-Murata-datasheet-149523249.pdf?src-supplier=Newark; ComponentLink1Description: https://datasheet.octopart.com/GRM188R61E106KA73D-Murata-datasheet-149523249.pdf?src-supplier=Newark; ComponentLink2URL: https://search.murata.co.jp/Ceramy/image/img/A01X/G101/ENG/GRM188R61E106KA73-01.pdf?src-supplier=Digi-Key; ComponentLink2Description: https://search.murata.co.jp/Ceramy/image/img/A01X/G101/ENG/GRM188R61E106KA73-01.pdf?src-supplier=Digi-Key; ComponentLink3URL: https://datasheet.octopart.com/GRM188R61E106KA73D-Murata-datasheet-165579666.pdf?src-supplier=TME; ComponentLink3Description: https://datasheet.octopart.com/GRM188R61E106KA73D-Murata-datasheet-165579666.pdf?src-supplier=TME; Supplier Part Number 1: 81-GRM188R61E106KA3D
footprint CAP_0603
pins: 1, 2

## CAP_10uF-25V-10%-0805
designator C?, comment 10uF 25V
0805 25 V 10 uF ±20% Tolerance X5R Monolithic Ceramic Chip Capacitor; Manufacturer: Murata Electronics; Manufacturer Part Number: GRM21BR61E106KA73K; Manufacturer 1: Murata; Tolerance: 10%; Case/Package: 0805; Supplier-1: Digikey; Supplier 1: Digi-Key; Manufacturer Part Number 1: GRM21BR61E106KA73K; RoHS: Yes; Category: Ceramic Capacitors; Stock 1: 658247; Pricing 1: 1=0.17, 10=0.117, 50=0.07, 100=0.0591, 500=0.04046, 1000=0.03579, 2500=0.03424, 5000=0.03112 (USD); Mount: Surface Mount; Weight: 0.000335oz; Case Code (Imperial): 0805; Case Code (Metric): 2012; Min Operating Temperature: -55°C; Max Operating Temperature: 85°C; Packaging: Tape and Reel; Capacitance: 10uF; Voltage Rating: 25V; Package Quantity: 10000; Dielectric: X5R; Voltage Rating (DC): 25V; Series: GRM; Length: 0.079inch; Width: 0.049inch; Thickness: 0.055inch; RoHS Compliant: Yes; ComponentLink1URL: http://www.mouser.com/ds/2/281/c02e-2905.pdf?src-supplier=Mouser; ComponentLink1Description: http://www.mouser.com/ds/2/281/c02e-2905.pdf?src-supplier=Mouser; ComponentLink2URL: https://datasheet.octopart.com/GRM21BR61E106KA73K-Murata-datasheet-149523495.pdf?src-supplier=Newark; ComponentLink2Description: https://datasheet.octopart.com/GRM21BR61E106KA73K-Murata-datasheet-149523495.pdf?src-supplier=Newark; ComponentLink3URL: https://datasheet.octopart.com/GRM21BR61E106KA73K-Murata-datasheet-99353849.pdf?src-supplier=Future+Electronics; ComponentLink3Description: https://datasheet.octopart.com/GRM21BR61E106KA73K-Murata-datasheet-99353849.pdf?src-supplier=Future+Electronics; ComponentLink4URL: http://search.murata.co.jp/Ceramy/image/img/A01X/G101/ENG/GRM21BR61E106KA73-01.pdf?src-supplier=Digi-Key; ComponentLink4Description: http://search.murata.co.jp/Ceramy/image/img/A01X/G101/ENG/GRM21BR61E106KA73-01.pdf?src-supplier=Digi-Key; ComponentLink5URL: https://search.murata.co.jp/Ceramy/image/img/A01X/G101/ENG/GRM21BR61E106KA73-01.pdf?src-supplier=Digi-Key; ComponentLink5Description: https://search.murata.co.jp/Ceramy/image/img/A01X/G101/ENG/GRM21BR61E106KA73-01.pdf?src-supplier=Digi-Key; ComponentLink6URL: https://datasheet.octopart.com/GRM21BR61E106KA73K-Murata-datasheet-165579666.pdf?src-supplier=TME; ComponentLink6Description: https://datasheet.octopart.com/GRM21BR61E106KA73K-Murata-datasheet-165579666.pdf?src-supplier=TME; Supplier Part Number 1: 490-16824-1-ND
footprint CAP_0805
pins: 1, 2

## CAP_10uF_10V_10%_X5R_0603
designator C?, comment 10uF 10V
Multilayer Ceramic Capacitor, 10 uF, 10 V, ± 10%, X5R, 0603 [1608 Metric]; Manufacturer 1: Samsung; Manufacturer Part Number 1: CL10A106KP8NNNC; ComponentLink1URL: https://datasheet.octopart.com/GRM188R61A106KE69J-Murata-datasheet-66152891.pdf?src-supplier=Future+Electronics; ComponentLink1Description: https://datasheet.octopart.com/GRM188R61A106KE69J-Murata-datasheet-66152891.pdf?src-supplier=Future+Electronics; ComponentLink2URL: http://search.murata.co.jp/Ceramy/image/img/A01X/G101/ENG/GRM188R61A106KE69-01.pdf?src-supplier=Digi-Key; ComponentLink2Description: http://search.murata.co.jp/Ceramy/image/img/A01X/G101/ENG/GRM188R61A106KE69-01.pdf?src-supplier=Digi-Key; Supplier 1: Digi-Key; RoHS: Yes; Category: Ceramic Capacitors; Stock 1: 1782428; Pricing 1: 1=0.19, 10=0.139, 50=0.0786, 100=0.0652, 500=0.04572, 1000=0.03785 (USD); Mount: Surface Mount; Case/Package: 0603; Case Code (Metric): 1608; Case Code (Imperial): 0603; Material: Ceramic; Min Operating Temperature: -55°C; Max Operating Temperature: 85°C; Capacitance: 10uF; Tolerance: 10%; Dielectric: X5R; Package Quantity: 1; Packaging: Tape and Reel; Voltage Rating: 10V; Voltage Rating (DC): 10V; Series: CL; Construction: Flat; Length: 1.6mm; Width: 0.031inch; Height: 0.8mm; Thickness: 0.035inch; Depth: 0.8mm; Radiation Hardening: No; Lead Free: Lead Free; RoHS Compliant: Yes; ComponentLink3URL: https://datasheet.ciiva.com/26877/getdatasheetpartid-359551-26877881.pdf?src-supplier=Verical; ComponentLink3Description: https://datasheet.ciiva.com/26877/getdatasheetpartid-359551-26877881.pdf?src-supplier=Verical; ComponentLink4URL: https://datasheet.ciiva.com/29198/457369-da-01-en-vs-kondensator-0603-29198790.pdf?src-supplier=Conrad; ComponentLink4Description: https://datasheet.ciiva.com/29198/457369-da-01-en-vs-kondensator-0603-29198790.pdf?src-supplier=Conrad; ComponentLink5URL: https://datasheet.ciiva.com/16200/cl05b104kq5nnnc-16200766.pdf?src-supplier=Future+Electronics; ComponentLink5Description: https://datasheet.ciiva.com/16200/cl05b104kq5nnnc-16200766.pdf?src-supplier=Future+Electronics; Supplier Part Number 1: 1276-1192-1-ND
footprint CAP_0603
pins: 1, 2